# Altium footprint library 06R-JWPF-VSLE-D.PcbLib: 1 footprints
Each footprint in its own frame and in the unit in brackets; x right, y up, seen from the top. Pads: shape width x height; smd on the part's side, far side on the other; paste and mask are expansions set on the pad; w line width, h text height; cw(c..) or ccw(c..) is an arc to the next point about the centre after c.
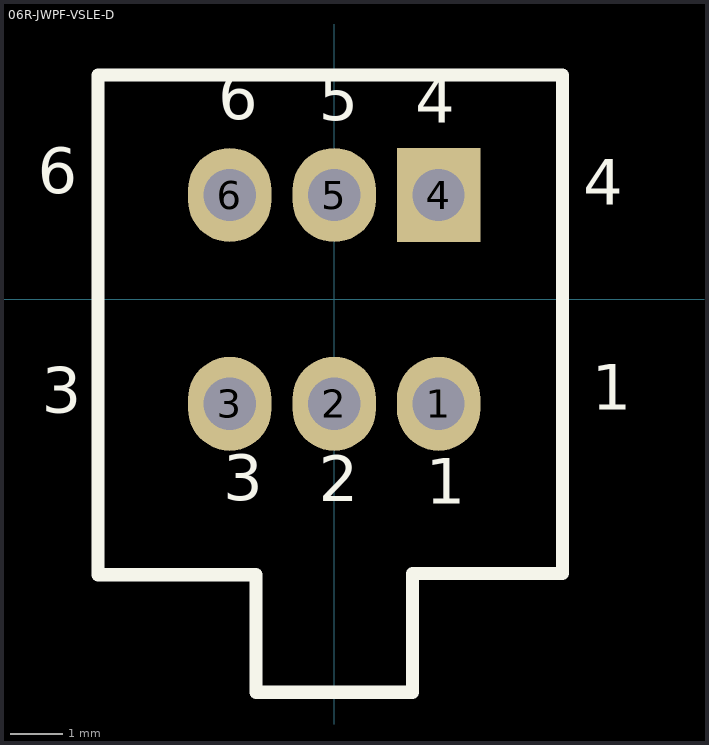
[diagram p0: the footprint, top view; thin cyan lines are the x and y axes]

## 06R-JWPF-VSLE-D [mm]
pads (6):
  oval 1.6x1.8 hole 1: 1(2,-2) 2(0,-2) 3(-2,-2) 5(0,2) 6(-2,2)
  rect 1.6x1.8 hole 1: 4(2,2)
Top Overlay:
  lines w0.254: -4.525,-5.275 -4.425,-5.275 -1.5,-5.275 -1.5,-7.525 1.5,-7.525 1.5,-5.25 4.375,-5.25 4.375,4.3 -4.525,4.3 -4.525,-5.275
  text "3" at -2.125,-4.133 h1.5
  text "1" at 1.75,-4.2 h1.5
  text "2" at -0.3,-4.15 h1.5
  text "6" at -2.225,3.167 h1.5
  text "4" at 1.55,3.1 h1.5
  text "5" at -0.3,3.142 h1.5
  text "3" at -5.6,-2.458 h1.5
  text "1" at 4.934,-2.397 h1.5
  text "6" at -5.675,1.742 h1.5
  text "4" at 4.775,1.525 h1.5
Bottom Overlay:
  text "3" at -1.524,-4.14 h1.5
  text "1" at 2.286,-4.157 h1.5
  text "2" at 0.381,-4.157 h1.5
  text "6" at -1.549,3.13 h1.5
  text "4" at 2.261,3.113 h1.5
  text "5" at 0.356,3.13 h1.5
3D body "06R-JWPF-VSLE-D.STEP": height 16.56, standoff 0.01, extent -4.4,-7.5 4.4,4.3